# EAGLE library part SD_CARD (library SD_CARD)
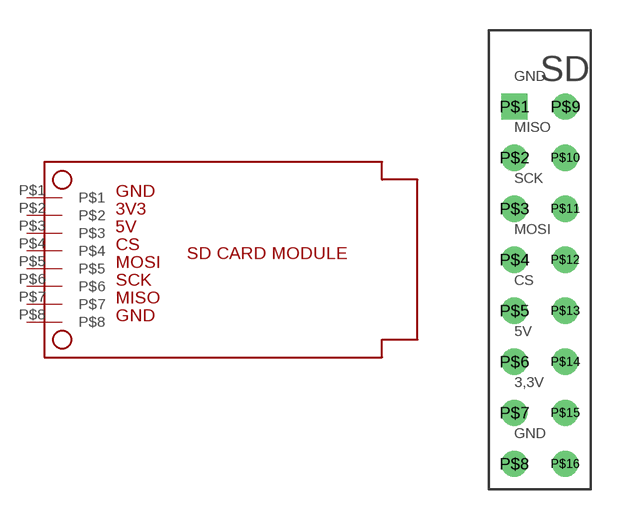
[diagram p0: symbol with the pads of SD_CARD; footprint SD_CARD]

Designator prefix -

## SD_CARD  [SD_CARD]
P$1  P$1
P$2  P$2
P$3  P$3
P$4  P$4
P$5  P$5
P$6  P$6
P$7  P$7
P$8  P$8

## Footprint SD_CARD (pad centres in mm)
drill 0.8 square: P$1 1.27,22.86
drill 0.8: P$2 1.27,20.32; P$3 1.27,17.78; P$4 1.27,15.24; P$5 1.27,12.7; P$6 1.27,10.16; P$7 1.27,7.62; P$8 1.27,5.08; P$9 3.81,22.86; P$10 3.81,20.32; P$11 3.81,17.78; P$12 3.81,15.24; P$13 3.81,12.7; P$14 3.81,10.16; P$15 3.81,7.62; P$16 3.81,5.08